# Altium footprint library FootPrintLib_4.PcbLib: 700 footprints (part 26 of 44)
Each footprint in its own frame and in the unit in brackets; x right, y up, seen from the top. Pads: shape width x height; smd on the part's side, far side on the other; paste and mask are expansions set on the pad; w line width, h text height; cw(c..) or ccw(c..) is an arc to the next point about the centre after c.
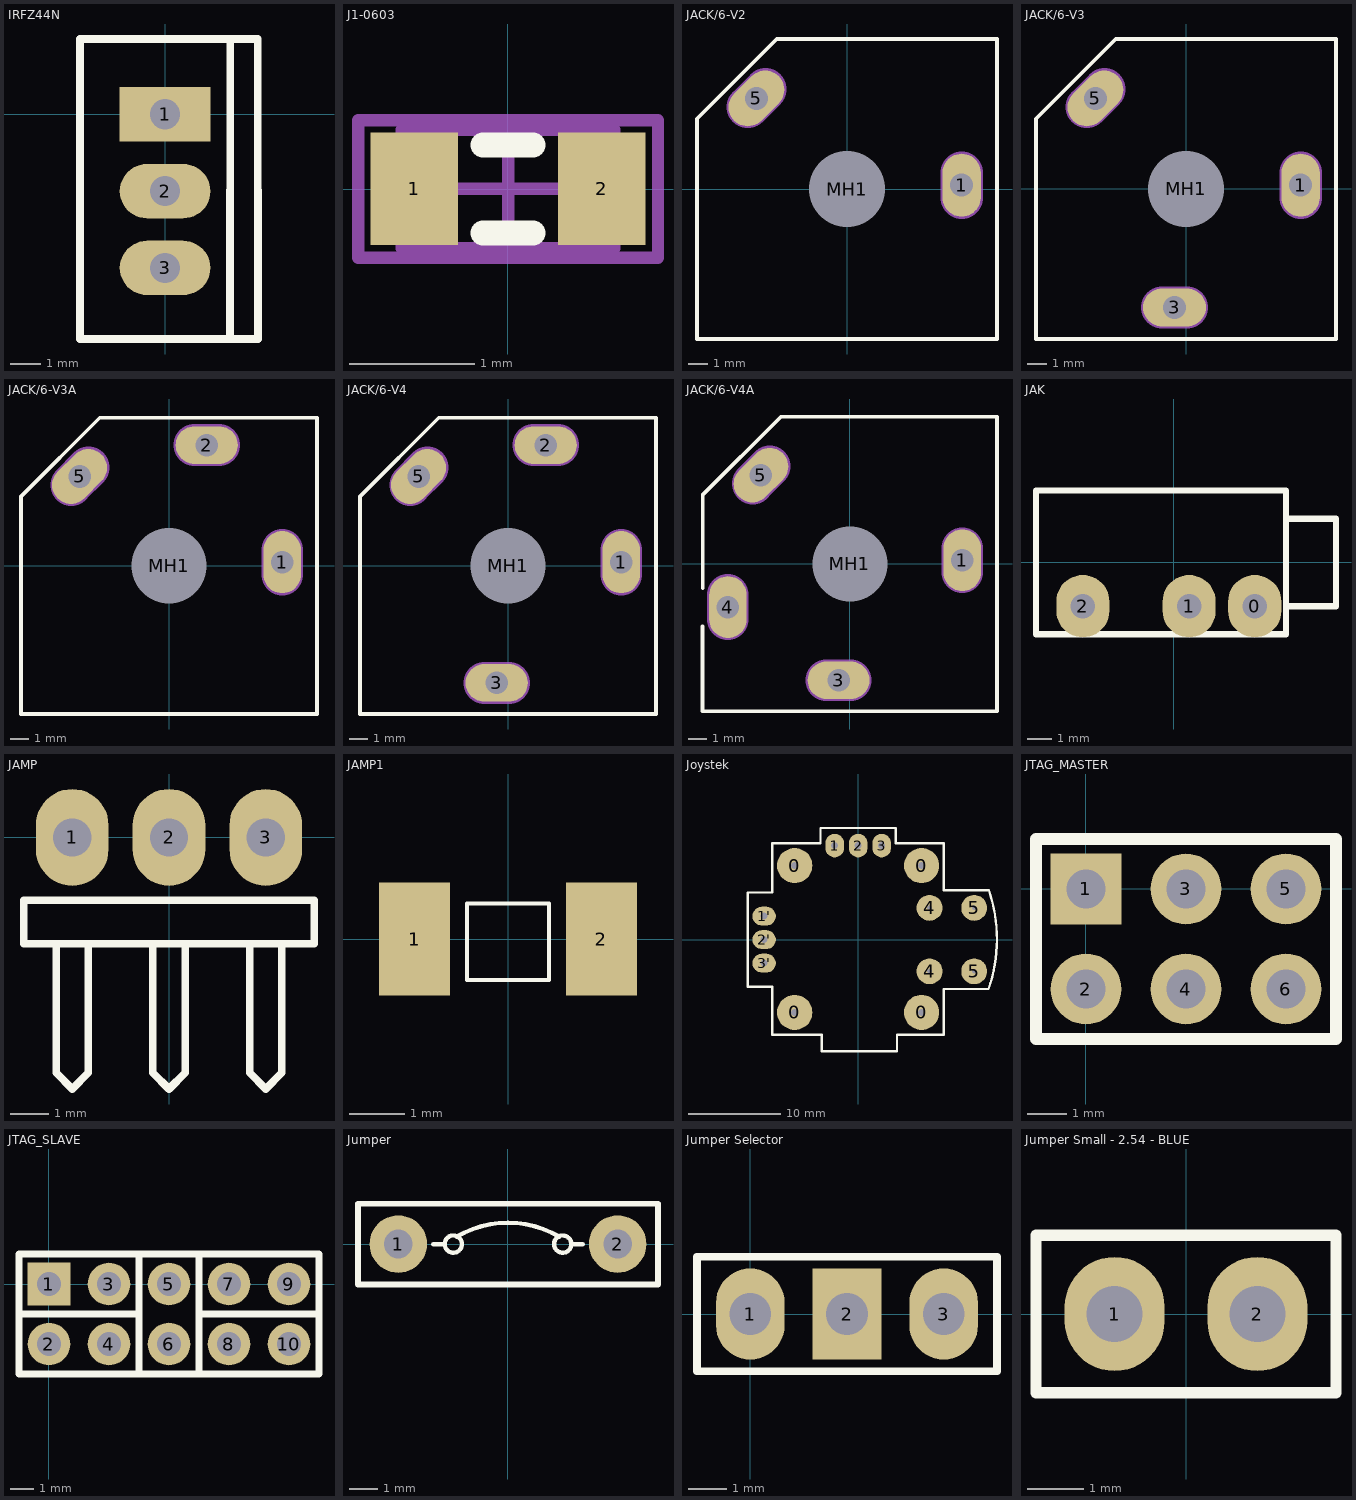
[diagram p25: the footprints below, top view; thin cyan lines are the x and y axes]

## IRFZ44N [mm]
pads (3):
  rect 3x1.8 hole 1: 1(0,0)
  oval 3x1.8 hole 1: 2(0,-2.54) 3(0,-5.08)
Top Overlay:
  lines w0.254: 2.15,-7.43 2.16,2.49 ; -2.81,-7.43 -2.81,2.49 3.06,2.49 3.07,-7.43 -2.81,-7.43

## J1-0603 [mm] "Chip Resistor, Body 1.6x0.8mm, IPC High Density"
height 0.9
pads (2):
  rect 0.7x0.9 smd: 1(-0.75,0) 2(0.75,0)
Top Overlay:
  lines w0.2: -0.2,-0.35 0.2,-0.35 ; -0.2,0.35 0.2,0.35
Mechanical 13:
  lines w0.1: -0.85,-0.475 -0.85,0.475 0.85,0.475 0.85,-0.475 -0.85,-0.475
Mechanical 15:
  lines w0.1: -0.475,0 0.475,0 ; 0,-0.475 0,0.475 ; -1.2,-0.55 -1.2,0.55 1.2,0.55 1.2,-0.55 -1.2,-0.55
3D body: height 0.9, standoff 0, extent -0.85,-0.475 0.85,0.475

## JACK/6-V2 [mm] "Connector; Jack Socket, 1/4\" [6.5mm], Thru-Hole, 2 Position, Vertical, Body 15.7 x 15.7 x 31 mm (WxTxH)"
height 31.1
pads (3):
  oval 2x3.3 hole 1.2: 1(6,0.2)
  oval 2x3.3 hole 1.2 rot 135: 5(-4.738,4.738)
  round 3.7 hole 4: MH1(0,0)
Top Overlay:
  lines w0.2: -7.85,-7.85 -7.85,3.675 -3.675,7.85 7.85,7.85 7.85,-7.85 -7.85,-7.85
Mechanical 1:
  lines w1.2: -5.185,4.295 -4.266,5.214 ; 6,-0.45 6,0.85
  text "Mech 2 - Clearance, move to internal plane if present" at -7.9,8.16 h0.3
  text "Mech 1 - Slot cut-out" at -7.9,8.66 h0.3
  text "Assign keep-out area to slot" at -7.9,10.16 h0.3
  text "Slot 1.2x2.5mm, PTH" at -7.9,9.16 h0.3
  text "Alert PCB fab to slot details" at -7.9,9.66 h0.3
Mechanical 2:
  lines w2.216: -5.185,4.295 -4.266,5.214 ; 6,-0.45 6,0.85

## JACK/6-V3 [mm] "Connector; Jack Socket, 1/4\" [6.5mm], Thru-Hole, 3 Position, Vertical, Body 15.7 x 15.7 x 31 mm (WxTxH)"
height 31.1
pads (4):
  oval 2x3.3 hole 1.2: 1(6,0.2)
  oval 3.3x2 hole 1.2: 3(-0.6,-6.2)
  oval 2x3.3 hole 1.2 rot 135: 5(-4.738,4.738)
  round 3.7 hole 4: MH1(0,0)
Top Overlay:
  lines w0.2: -7.85,-7.85 7.85,-7.85 7.85,7.85 -3.675,7.85 -7.85,3.675 -7.85,-7.85
Mechanical 1:
  lines w1.2: -5.185,4.295 -4.266,5.214 ; -1.25,-6.2 0.05,-6.2 ; 6,-0.45 6,0.85
  text "Alert PCB fab to slot details" at -7.9,9.66 h0.3
  text "Slot 1.2x2.5mm, PTH" at -7.9,9.16 h0.3
  text "Assign keep-out area to slot" at -7.9,10.16 h0.3
  text "Mech 1 - Slot cut-out" at -7.9,8.66 h0.3
  text "Mech 2 - Clearance, move to internal plane if present" at -7.9,8.16 h0.3
Mechanical 2:
  lines w2.216: -5.185,4.295 -4.266,5.214 ; -1.25,-6.2 0.05,-6.2 ; 6,-0.45 6,0.85

## JACK/6-V3A [mm] "Connector; Jack Socket, 1/4\" [6.5mm], Thru-Hole, 3 Position, Vertical, Body 15.7 x 15.7 x 31 mm (WxTxH)"
height 31.1
pads (4):
  oval 2x3.3 hole 1.2: 1(6,0.2)
  oval 3.3x2 hole 1.2: 2(2,6.4)
  oval 2x3.3 hole 1.2 rot 135: 5(-4.738,4.738)
  round 3.7 hole 4: MH1(0,0)
Top Overlay:
  lines w0.2: -7.85,-7.85 -7.85,3.675 -3.675,7.85 7.85,7.85 7.85,-7.85 -7.85,-7.85
Mechanical 1:
  lines w1.2: -5.185,4.295 -4.266,5.214 ; 1.35,6.4 2.65,6.4 ; 6,-0.45 6,0.85
  text "Alert PCB fab to slot details" at -7.9,9.66 h0.3
  text "Slot 1.2x2.5mm, PTH" at -7.9,9.16 h0.3
  text "Assign keep-out area to slot" at -7.9,10.16 h0.3
  text "Mech 1 - Slot cut-out" at -7.9,8.66 h0.3
  text "Mech 2 - Clearance, move to internal plane if present" at -7.9,8.16 h0.3
Mechanical 2:
  lines w2.216: -5.185,4.295 -4.266,5.214 ; 1.35,6.4 2.65,6.4 ; 6,-0.45 6,0.85

## JACK/6-V4 [mm] "Connector; Jack Socket, 1/4\" [6.5mm], Thru-Hole, 4 Position, Vertical, Body 15.7 x 15.7 x 31 mm (WxTxH)"
height 31.1
pads (5):
  oval 2x3.3 hole 1.2: 1(6,0.2)
  oval 3.3x2 hole 1.2: 2(2,6.4) 3(-0.6,-6.2)
  oval 2x3.3 hole 1.2 rot 135: 5(-4.738,4.738)
  round 3.7 hole 4: MH1(0,0)
Top Overlay:
  lines w0.2: -7.85,-7.85 -7.85,3.675 -3.675,7.85 7.85,7.85 7.85,-7.85 -7.85,-7.85
Mechanical 1:
  lines w1.2: -5.185,4.295 -4.266,5.214 ; -1.25,-6.2 0.05,-6.2 ; 1.35,6.4 2.65,6.4 ; 6,-0.45 6,0.85
  text "Alert PCB fab to slot details" at -7.9,9.66 h0.3
  text "Slot 1.2x2.5mm, PTH" at -7.9,9.16 h0.3
  text "Assign keep-out area to slot" at -7.9,10.16 h0.3
  text "Mech 1 - Slot cut-out" at -7.9,8.66 h0.3
  text "Mech 2 - Clearance, move to internal plane if present" at -7.9,8.16 h0.3
Mechanical 2:
  lines w2.216: -5.185,4.295 -4.266,5.214 ; -1.25,-6.2 0.05,-6.2 ; 1.35,6.4 2.65,6.4 ; 6,-0.45 6,0.85

## JACK/6-V4A [mm] "Connector; Jack Socket, 1/4\" [6.5mm], Thru-Hole, 4 Position, Vertical, Body 15.7 x 15.7 x 31 mm (WxTxH)"
height 31.1
pads (5):
  oval 2x3.3 hole 1.2: 1(6,0.2) 4(-6.5,-2.3)
  oval 3.3x2 hole 1.2: 3(-0.6,-6.2)
  oval 2x3.3 hole 1.2 rot 135: 5(-4.738,4.738)
  round 3.7 hole 4: MH1(0,0)
Top Overlay:
  lines w0.2: -7.85,-3.32 -7.85,-7.85 7.85,-7.85 7.85,7.85 -3.675,7.85 -7.85,3.675 -7.85,-1.28
Mechanical 1:
  lines w1.2: -6.5,-2.95 -6.5,-1.65 ; -5.185,4.295 -4.266,5.214 ; -1.25,-6.2 0.05,-6.2 ; 6,-0.45 6,0.85
  text "Alert PCB fab to slot details" at -7.9,9.66 h0.3
  text "Slot 1.2x2.5mm, PTH" at -7.9,9.16 h0.3
  text "Assign keep-out area to slot" at -7.9,10.16 h0.3
  text "Mech 1 - Slot cut-out" at -7.9,8.66 h0.3
  text "Mech 2 - Clearance, move to internal plane if present" at -7.9,8.16 h0.3
Mechanical 2:
  lines w2.216: -6.5,-2.95 -6.5,-1.65 ; -5.185,4.295 -4.266,5.214 ; -1.25,-6.2 0.05,-6.2 ; 6,-0.45 6,0.85

## JAK [mil]
pads (3):
  oval 85x100 hole 39.37: 0(130,-70) 1(25,-70) 2(-145,-70)
Top Overlay:
  lines w10: 180,70 260,70 260,-70 185,-70 ; -220,-115 -220,115 180,115 180,-115 -220,-115

## JAMP [mm]
pads (3):
  oval 1.905x2.54 hole 1: 1(-2.54,0) 2(0,0) 3(2.54,0)
Top Overlay:
  lines w0.2: -2.963,-2.794 -2.963,-6.181 -2.54,-6.604 -2.117,-6.181 -2.117,-2.794 ; -0.423,-2.794 -0.423,-6.181 0,-6.604 0.423,-6.181 0.423,-2.794 ; 2.117,-2.794 2.117,-6.181 2.54,-6.604 2.963,-6.181 2.963,-2.794 ; -3.81,-2.794 3.81,-2.794 3.81,-1.651 -3.81,-1.651 -3.81,-2.794

## JAMP1 [mil]
pads (2):
  rect 50x80 smd: 1(-66,0) 2(66,0)
Top Overlay:
  lines w3: -29,-29 -29,25 29,25 29,-29 -29,-29

## Joystek [mil]
pads (14):
  round 150 hole 30: 0(-270,-310) 0(-270,315) 0(270,-310) 0(270,315)
  oval 80x100 hole 30: 1(-100,400) 2(0,400) 3(100,400)
  oval 100x80 hole 30: 1'(-400,100) 2'(-400,0) 3'(-400,-100)
  round 110 hole 20: 4(303.8,-135) 4(303.8,135) 5(493.8,-135) 5(493.8,135)
Top Overlay:
  lines w10: 554.56,-209.84 ccw(c-47.5,2.5) 556.64,208.85 ; 555,-210 365,-210 365,-405 165.24,-405 165.24,-474.76 -155,-474.76 -155,-405 -365,-405 -365,-200.24 -470,-200.24 -470,200.24 -365,200.24 -365,410 -160,410 -160,474.76 160.24,474.76 160.24,410 365,410 365,210 556.64,210
3D body: height 10, standoff 2, extent -472.5,-475 587.5,475

## JTAG_MASTER [mm] "MASTER JTAG CONFIGURATION"
height 10
pads (6):
  rect 1.8x1.8 hole 1: 1(0,0)
  round 1.8 hole 1: 2(0,-2.54) 3(2.54,0) 4(2.54,-2.54) 5(5.08,0) 6(5.08,-2.54)
Top Overlay:
  lines w0.3: -1.27,-3.81 6.35,-3.81 6.35,1.27 -1.27,1.27 -1.27,-3.81 ; -1.27,-1.27 -1.27,-1.27
3D body "header2x3-10mm.STEP": height 8.38, standoff -2.54, extent -1.27,-3.81 6.35,1.27
3D body "jumper_akspt_z-blue.STEP": height 8.57, standoff 2.6, extent -1.22,-1.22 3.76,1.22
3D body "jumper_akspt_z-blue.STEP": height 8.57, standoff 2.6, extent 1.32,-3.76 6.3,-1.32

## JTAG_SLAVE [mm] "SLAVE JTAG CONFIGURATION"
height 10
pads (10):
  rect 1.8x1.8 hole 1: 1(0,0)
  round 1.8 hole 1: 2(0,-2.54) 3(2.54,0) 4(2.54,-2.54) 5(5.08,0) 6(5.08,-2.54) 7(7.62,0) 8(7.62,-2.54) 9(10.16,0) 10(10.16,-2.54)
Top Overlay:
  lines w0.3: 3.81,-3.81 3.81,1.27 ; 3.81,-1.27 -1.27,-1.27 ; 6.35,-3.81 6.35,1.143 ; 6.35,-1.27 11.43,-1.27 ; -1.27,-1.27 -1.27,-1.27 ; 11.43,-1.27 11.43,-1.27 ; -1.27,-3.81 11.43,-3.81 11.43,1.27 -1.27,1.27 -1.27,-3.81
3D body "jumper_akspt_z-blue.STEP": height 8.57, standoff 2.6, extent 6.4,-3.76 11.38,-1.32
3D body "jumper_akspt_z-blue.STEP": height 8.57, standoff 2.6, extent 3.86,-3.76 6.3,1.22
3D body "jumper_akspt_z-blue.STEP": height 8.57, standoff 2.6, extent -1.22,-1.22 3.76,1.22
3D body "header2x5-10mm.STEP": height 8.38, standoff -2.54, extent -1.27,-3.81 11.43,1.27

## Jumper [mm]
pads (2):
  round 2 hole 1: 1(-3.81,0) 2(3.81,0)
Top Overlay:
  circle w0.15: c-1.9,0 r0.3
  circle w0.15: c1.9,0 r0.3
  lines w0.15: -2.6,0 -2.2,0 ; -1.776,0.26 cw(c0,-2.756) 1.776,0.26 ; 2.2,0 2.6,0
  lines w0.2: -5.21,-1.4 5.21,-1.4 5.21,1.4 -5.21,1.4 -5.21,-1.4
3D body "Resistor Zero.STEP": height 2.5, standoff -2.3, extent -4.21,-1.2 4.21,1.2

## Jumper Selector [mm]
pads (3):
  oval 1.8x2.4 hole 1.1: 1(0,0) 3(5.08,0)
  rect 1.8x2.4 hole 1.1: 2(2.54,0)
Top Overlay:
  lines w0.2: -1.4,-1.5 6.48,-1.5 6.48,1.5 -1.4,1.5 -1.4,-1.5
3D body "Header3.STEP": height 8.38, standoff -2.54, extent -1.245,-1.27 6.375,1.27
3D body: height 10.16, standoff 3.05, extent -1.245,-1.27 3.835,1.27

## Jumper Small - 2.54 - BLUE [mil]
pads (2):
  oval 70x80 hole 39.37: 1(-50,0) 2(50,0)
Top Overlay:
  lines w7.87: -105.12,-55.12 105.12,-55.12 105.12,55.12 -105.12,55.12 -105.12,-55.12
3D body "jumper_akspt_z-blue.STEP": height 337.4, standoff 102.36, extent -98.03,-48.03 98.03,48.03
3D body "header02.STEP": height 330, standoff -100, extent -100,-50 100,50